# EAGLE library part IR2130 (library open-bldc)
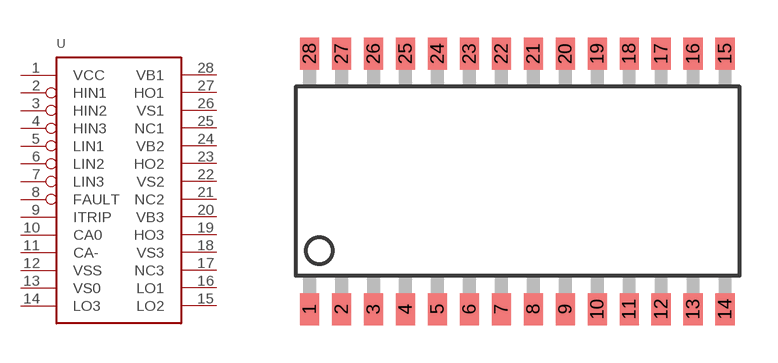
[diagram p5: symbol with the pads of SO-28W; footprint SO-28W]

Designator prefix -

## IR2130  [SO-28W]
1  VCC
2  HIN1
3  HIN2
4  HIN3
5  LIN1
6  LIN2
7  LIN3
8  FAULT
9  ITRIP
10  CA0
11  CA-
12  VSS
13  VS0
14  LO3
15  LO2
16  LO1
17  NC3  nc
18  VS3
19  HO3
20  VB3
21  NC2
22  VS2
23  HO2
24  VB2
25  NC1
26  VS1
27  HO1
28  VB1

## Footprint SO-28W (pad centres in mm)
smd 0.762 x 1.27: 1 -8.145,-5.24; 2 -6.875,-5.24; 3 -5.605,-5.24; 4 -4.335,-5.24; 5 -3.065,-5.24; 6 -1.795,-5.24; 7 -0.525,-5.24; 8 0.745,-5.24; 9 2.015,-5.24; 10 3.285,-5.24; 11 4.555,-5.24; 12 5.825,-5.24; 13 7.095,-5.24; 14 8.365,-5.24; 15 8.365,4.92; 16 7.095,4.92; 17 5.825,4.92; 18 4.555,4.92; 19 3.285,4.92; 20 2.015,4.92; 21 0.745,4.92; 22 -0.525,4.92; 23 -1.795,4.92; 24 -3.065,4.92; 25 -4.335,4.92; 26 -5.605,4.92; 27 -6.875,4.92; 28 -8.145,4.92